# Altium schematic symbol library SCH - OPAMP - TI TL972IPW.Schlib: 1 symbol
Pins are listed as number, name and electrical type; pins without a type are passive.

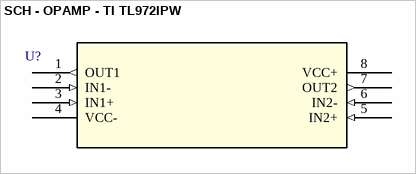
[diagram p0: symbol SCH - OPAMP - TI TL972IPW]

## SCH - OPAMP - TI TL972IPW
designator U?
footprint PW8
pins: 1 OUT1 (out), 2 IN1- (in), 3 IN1+ (in), 4 VCC- (power), 5 IN2+ (in), 6 IN2- (in), 7 OUT2 (out), 8 VCC+ (power)